# Altium footprint library Components - 26.01.22 - 20.55.PcbLib: 1 footprints
Each footprint in its own frame and in the unit in brackets; x right, y up, seen from the top. Pads: shape width x height; smd on the part's side, far side on the other; paste and mask are expansions set on the pad; w line width, h text height; cw(c..) or ccw(c..) is an arc to the next point about the centre after c.
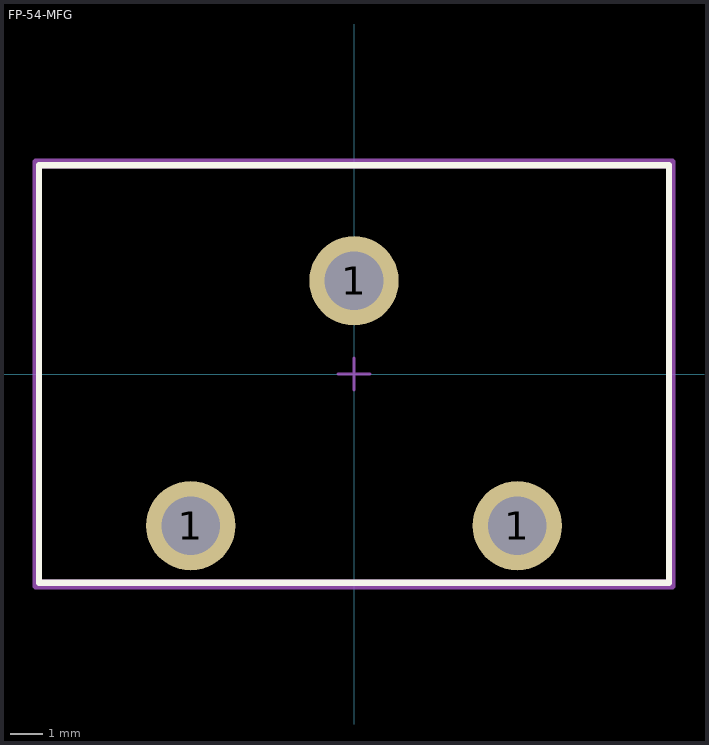
[diagram p0: the footprint, top view; thin cyan lines are the x and y axes]

## FP-54-MFG [mm]
pads (3):
  round 2.78 hole 1.83 paste-1000 mask+0: 1(-5.08,-4.72) 1(0,2.9) 1(5.08,-4.72)
Top Overlay:
  lines w0.2: -9.8,-6.5 -9.8,6.5 9.8,6.5 9.8,-6.5 -9.8,-6.5
Top Assembly:
  lines w0.2: -9.9,-6.6 -9.9,6.6 9.9,6.6 9.9,-6.6 -9.9,-6.6
  text ".Designator" at 0,0 h1
Top 3D Body:
  lines w0.2: -9.8,-6.5 -9.8,6.5 9.8,6.5 9.8,-6.5 -9.8,-6.5
Top Courtyard:
  lines w0.2: -9.9,-6.6 -9.9,6.6 9.9,6.6 9.9,-6.6 -9.9,-6.6
Top Component Center:
  lines w0.1: -0.5,0 0.5,0 ; 0,-0.5 0,0.5